# EAGLE library part SPI_RIEGEL_LIEGEND (library roboternetz_definitionen)
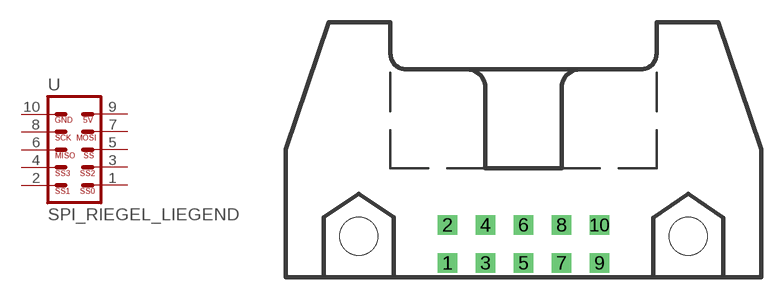
[diagram p5: symbol with the pads of 3M_10L; footprint 3M_10L]

Designator prefix -

## SPI_RIEGEL_LIEGEND  [3M_10L]
1  1_SS0  pas
2  2_SS1  pas
3  3_SS2  pas
4  4_SS3  pas
5  5_SS  pas
6  6_MISO  pas
7  7_MOSI  pas
8  8_SCK  pas
9  9_5V  pas
10  10_GND  pas

## Footprint 3M_10L (pad centres in mm)
3M
drill 0.813 square: 1 -5.08,-5.08; 2 -5.08,-2.54; 3 -2.54,-5.08; 4 -2.54,-2.54; 5 0,-5.08; 6 0,-2.54; 7 2.54,-5.08; 8 2.54,-2.54; 9 5.08,-5.08; 10 5.08,-2.54
hole 2.54 at -10.998,-3.277
hole 2.54 at 10.998,-3.277